# EAGLE library part 103735-06 (library con-tyco-modu)
HEADER
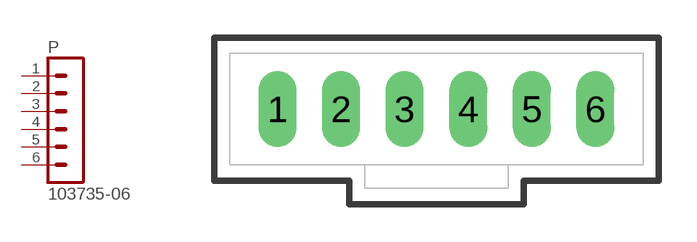
[diagram p0: symbol with the pads of 103735-06; footprint 103735-06]

Designator prefix P

## 103735-06  [103735-06]
1  1  pas
2  2  pas
3  3  pas
4  4  pas
5  5  pas
6  6  pas

## Footprint 103735-06 (pad centres in mm)
HEADER - MTE
drill 1.016 long: 1 -6.35,0; 2 -3.81,0; 3 -1.27,0; 4 1.27,0; 5 3.81,0; 6 6.35,0